# Altium integrated library TLLG4400.IntLib: 1 symbol
Pins are listed as number, name and electrical type; pins without a type are passive.

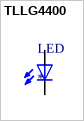
[diagram p0: symbol TLLG4400]

## TLLG4400
designator LED
Green 569nm LED Indication - Discrete 1.9V Radial; MP: TLLG4400; MF: Vishay; Package: Radial Vishay; Price: None; Availability: Unavailable; SnapEDA_Link: https://www.snapeda.com/parts/TLLG4400/Vishay/view-part/268070/?ref=snap; Value: *
footprint LED3MM
pins: A, K C